# Altium footprint library new-version.PcbLib: 241 footprints (part 13 of 16)
Each footprint in its own frame and in the unit in brackets; x right, y up, seen from the top. Pads: shape width x height; smd on the part's side, far side on the other; paste and mask are expansions set on the pad; w line width, h text height; cw(c..) or ccw(c..) is an arc to the next point about the centre after c.
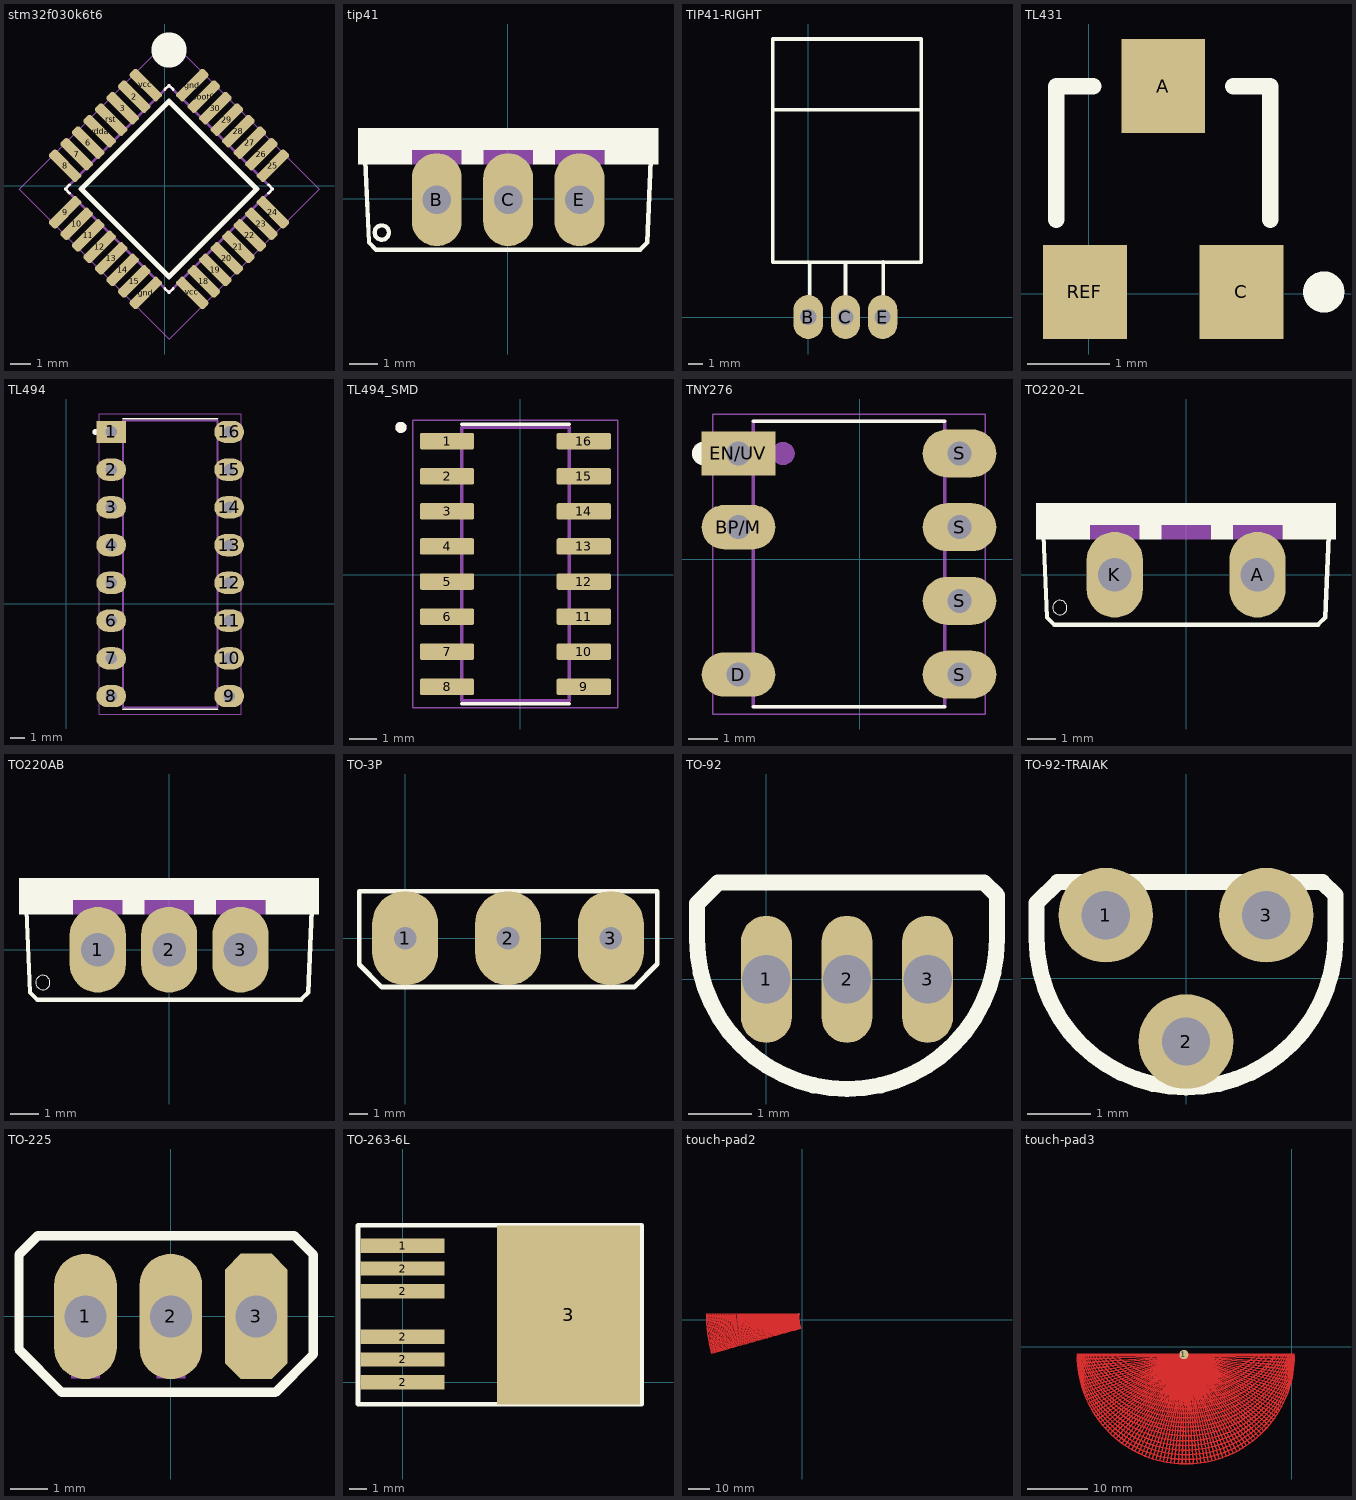
[diagram p12: the footprints below, top view; thin cyan lines are the x and y axes]

## stm32f030k6t6 [mil]
pads (32):
  rrect50% 75x20 smd rot 135: 2(-59.57,172.51) 3(-81.84,150.24) 6(-148.66,83.43) 7(-170.93,61.16) 8(-193.2,38.89) 18(75.14,-184.92) 19(97.42,-162.64) 20(119.69,-140.37) 21(141.96,-118.1) 22(164.23,-95.83) 23(186.5,-73.56) 24(208.77,-51.29) rst(-104.12,127.97) vcc(-37.3,194.78) vcc(52.87,-207.19) vdda(-126.39,105.7)
  rrect50% 75x20 smd rot 45: 9(-193.2,-51.29) 10(-170.93,-73.56) 11(-148.66,-95.83) 12(-126.39,-118.1) 13(-104.12,-140.37) 14(-81.84,-162.64) 15(-59.57,-184.92) 25(208.77,38.89) 26(186.5,61.16) 27(164.23,83.43) 28(141.96,105.7) 29(119.69,127.97) 30(97.42,150.24) boot0(75.14,172.51) gnd(-37.3,-207.19) gnd(52.87,194.78)
Top Overlay:
  circle w60: c7.79,262.5 r3.94
  lines w5: -184.3,-14.55 -192.65,-6.2 -184.3,2.15 ; -0.57,-198.29 7.79,-206.64 16.14,-198.29 ; -0.57,185.89 7.79,194.24 16.14,185.89 ; 199.87,-14.55 208.22,-6.2 199.87,2.15
  lines w10: -161.92,-6.2 7.79,163.5 177.49,-6.2 7.79,-175.91 -161.92,-6.2
Mechanical 13:
  lines w5: -192.65,-6.2 7.79,-206.64 208.22,-6.2 7.79,194.24 -192.65,-6.2
Mechanical 15:
  lines w1.97: -282.3,-6.2 7.79,283.88 297.87,-6.2 7.79,-296.28 -282.3,-6.2

## tip41 [mil]
pads (3):
  oval 70x130 hole 40: B(-99.41,-1.19) C(0.59,-1.19) E(100.59,-1.19)
Top Overlay:
  circle w6: c-176.41,-47.19 r10
  region: 210.59,48.79 135.64,48.79 135.64,68.81 210.59,68.81
  region: 65.59,48.75 35.64,48.75 35.64,68.81 65.59,68.81
  region: -34.41,48.75 -64.48,48.75 -64.48,68.81 -34.41,68.81
  region: -134.41,48.79 -209.48,48.79 -209.48,68.81 -134.41,68.81
  region: 210.59,68.76 -209.75,68.76 -209.75,98.81 210.59,98.81
  lines w6: -199.41,53.81 -194.41,-61.19 -184.41,-71.19 185.59,-71.19 195.59,-61.19 200.59,53.81
Mechanical 13:
  region: 135.59,48.75 65.67,48.75 65.67,68.81 135.59,68.81
  region: 35.59,48.78 -34.42,48.78 -34.42,68.81 35.59,68.81
  region: -64.41,48.8 -134.42,48.8 -134.42,68.81 -64.41,68.81

## TIP41-RIGHT [mm]
pads (3):
  oval 2x3 hole 1.1: B(0,0) C(2.54,0) E(5.08,0)
Top Overlay:
  lines w0.254: -2.393,14.154 7.717,14.154 ; 0,0 0.099,0 0.099,3.668 ; 2.54,0 2.54,3.75 ; 5.08,0 5.117,0 5.117,3.755 ; -2.434,3.75 -2.434,18.99 7.726,18.99 7.726,3.75 -2.434,3.75

## TL431 [mil]
pads (3):
  rect 40x45 smd: A(35.51,99.24) C(72.91,0.81) REF(-1.9,0.81)
Top Overlay:
  circle w9.84: c112.28,0.81 r4.92
  lines w7.87: -15.68,35.26 -15.68,99.24 2.04,99.24 ; 68.97,99.24 86.69,99.24 86.69,35.26

## TL494 [mm]
pads (16):
  rect 2x1.5 hole 0.78: 1(3.015,11.557)
  oval 2x1.5 hole 0.78: 2(3.015,9.017) 3(3.015,6.477) 4(3.015,3.937) 5(3.015,1.397) 6(3.015,-1.143) 7(3.015,-3.683) 8(3.015,-6.223) 9(10.955,-6.223) 10(10.955,-3.683) 11(10.955,-1.143) 12(10.955,1.397) 13(10.955,3.937) 14(10.955,6.477) 15(10.955,9.017) 16(10.955,11.557)
Top Overlay:
  circle w0.2: c1.95,11.557 r0.1
  lines w0.127: 3.81,-7.108 10.16,-7.108 ; 3.81,12.442 10.16,12.442
Mechanical 13:
  circle w0.2: c1.95,11.557 r0.1
  lines w0.127: 3.81,-6.986 10.16,-6.986 10.16,12.32 3.81,12.32 3.81,-6.986
Mechanical 15:
  lines w0.05: 2.2,-7.428 11.77,-7.428 11.77,12.762 2.2,12.762 2.2,-7.428
3D body "TL494CN--3DModel-STEP-56544.STEP": height 4.44, standoff -3.3, extent 3.156,-6.794 11.068,12.383

## TL494_SMD [mm]
pads (16):
  rrect25% 1.97x0.6 smd: 1(-2.644,4.826) 2(-2.644,3.556) 3(-2.644,2.286) 4(-2.644,1.016) 5(-2.644,-0.254) 6(-2.644,-1.524) 7(-2.644,-2.794) 8(-2.644,-4.064) 9(2.306,-4.064) 10(2.306,-2.794) 11(2.306,-1.524) 12(2.306,-0.254) 13(2.306,1.016) 14(2.306,2.286) 15(2.306,3.556) 16(2.306,4.826)
Top Overlay:
  circle w0.2: c-4.314,5.326 r0.1
  lines w0.127: -2.119,-4.684 1.781,-4.684 ; -2.119,5.446 1.781,5.446
Mechanical 13:
  circle w0.2: c-4.314,5.326 r0.1
  lines w0.127: -2.119,-4.569 1.781,-4.569 1.781,5.331 -2.119,5.331 -2.119,-4.569
Mechanical 15:
  lines w0.05: -3.879,-4.819 3.541,-4.819 3.541,5.581 -3.879,5.581 -3.879,-4.819

## TNY276 [mm]
pads (7):
  oval 2.54x1.524 hole 0.83: BP/M(-4.187,1.104) D(-4.187,-3.976)
  rect 2.54x1.524 hole 0.83: EN/UV(-4.187,3.644)
  oval 2.54x1.651 hole 0.83: S(3.433,-3.976) S(3.433,-1.436) S(3.433,1.104) S(3.433,3.644)
Top Overlay:
  circle w0.4: c-5.397,3.642 r0.2
  lines w0.127: -3.677,-5.086 2.923,-5.086 ; -3.677,4.754 2.923,4.754
Mechanical 13:
  circle w0.4: c-2.647,3.642 r0.2
  lines w0.127: -3.677,-5.086 2.923,-5.086 2.923,4.754 -3.677,4.754 -3.677,-5.086
Mechanical 15:
  lines w0.05: -5.067,-5.336 -5.067,5.004 4.313,5.004 4.313,-5.336 -5.067,-5.336

## TO220-2L [mm]
pads (2):
  oval 2x3.048 hole 1.2: A(2.54,0) K(-2.54,0)
Top Overlay:
  circle w0: c-4.496,-1.168 r0.254
  region: 5.334,1.777 -5.344,1.777 -5.344,2.54 5.334,2.54
  region: -3.429,1.268 -5.34,1.268 -5.34,1.778 -3.429,1.778
  region: -0.889,1.268 -1.654,1.268 -1.654,1.778 -0.889,1.778
  region: 1.651,1.269 0.89,1.269 0.89,1.778 1.651,1.778
  region: 5.334,1.269 3.433,1.269 3.433,1.778 5.334,1.778
  lines w0.152: -5.08,1.397 -4.953,-1.524 -4.699,-1.778 4.699,-1.778 4.953,-1.524 5.08,1.397
Mechanical 13:
  region: -1.651,1.269 -3.433,1.269 -3.433,1.778 -1.651,1.778
  region: 0.889,1.27 -0.889,1.27 -0.889,1.778 0.889,1.778
  region: 3.429,1.27 1.652,1.27 1.652,1.778 3.429,1.778
3D body "IRF740.STEP": height 20.58, standoff -8.32, extent -5.12,-1.778 5.08,2.722

## TO220AB [mm]
pads (3):
  oval 2x3.048 hole 1.2: 1(-2.54,0) 2(0,0) 3(2.54,0)
Top Overlay:
  circle w0: c-4.496,-1.168 r0.254
  region: 5.334,1.269 3.433,1.269 3.433,1.778 5.334,1.778
  region: 1.651,1.269 0.89,1.269 0.89,1.778 1.651,1.778
  region: -0.889,1.268 -1.654,1.268 -1.654,1.778 -0.889,1.778
  region: -3.429,1.268 -5.34,1.268 -5.34,1.778 -3.429,1.778
  region: 5.334,1.777 -5.344,1.777 -5.344,2.54 5.334,2.54
  lines w0.152: -5.08,1.397 -4.953,-1.524 -4.699,-1.778 4.699,-1.778 4.953,-1.524 5.08,1.397
Mechanical 13:
  region: 3.429,1.27 1.652,1.27 1.652,1.778 3.429,1.778
  region: 0.889,1.27 -0.889,1.27 -0.889,1.778 0.889,1.778
  region: -1.651,1.269 -3.433,1.269 -3.433,1.778 -1.651,1.778
3D body "IRF740.STEP": height 20.58, standoff -8.32, extent -5.12,-1.778 5.08,2.722

## TO-3P [mm]
pads (3):
  oval 3.5x5 hole 1.2: 1(0,0) 2(5.45,0) 3(10.9,0)
Top Overlay:
  lines w0.254: -2.438,-1.397 -2.438,2.489 13.362,2.489 13.362,-1.37 12.141,-2.591 -1.245,-2.591 -2.438,-1.397

## TO-92 [mm]
pads (3):
  oval 0.8x2 hole 0.762: 1(0,0) 2(1.27,0) 3(2.54,0)
Top Overlay:
  lines w0.254: -1.092,0.635 ccw(c1.27,0.635) 3.632,0.635 3.632,1.321 3.429,1.524 -0.762,1.524 -1.092,1.194 -1.092,0.635

## TO-92-TRAIAK [mm]
pads (3):
  round 1.5 hole 0.762: 1(-1.27,1) 2(0,-1) 3(1.27,1)
Top Overlay:
  lines w0.254: -2.362,0.635 ccw(c0,0.635) 2.362,0.635 2.362,1.321 2.159,1.524 -2.032,1.524 -2.362,1.194 -2.362,0.635

## TO-225 [mil]
pads (3):
  oval 66x132 hole 44: 1(-90,0) 2(0,0)
  oct 66x132 hole 44: 3(90,0)
Top Overlay:
  lines w10: -160,-35 -160,65 -140,85 130,85 150,65 150,-40 110,-80 -115,-80 -160,-35
Mechanical 13:
  region: 75,5.17 105.09,5.17 105.09,-65 75,-65
  region: -15,5.01 15,5.01 15,-65 -15,-65
  region: -105,5.36 -75.13,5.36 -75.13,-65 -105,-65
3D body "MJE350G.STEP": height 519.68, standoff -545.28, extent -155,-65 144.21,39.33

## TO-263-6L [mm]
pads (7):
  rect 4.7x0.8 smd: 1(0,7.62) 2(0,0) 2(0,1.27) 2(0,2.54) 2(0,5.08) 2(0,6.35)
  rect 8x10 smd paste-5: 3(9.271,3.759)
Top Overlay:
  lines w0.254: -2.489,-1.237 13.361,-1.237 13.361,8.763 -2.489,8.763 -2.489,-1.237

## touch-pad2 [mm]
pads (1):
  rrect40% 0.5x0.5 smd paste+0 mask+0: 1(-1.46,2.603)
Top Layer:
  drawing of 3774 lines, arcs and shapes, not listed

## touch-pad3 [mil]
pads (1):
  round 60 smd: 1(-699.38,-49.78)
Top Layer:
  drawing of 2215 lines, arcs and shapes, not listed